# EAGLE library part TPS2590RSAR (library edrtech_lib)
20V, 5.5A, 30m eFuse with Dual Fault Threshold and Selectable Fault Response Source: Datasheet <http://www.ti.com/lit/gpn/tps2590>
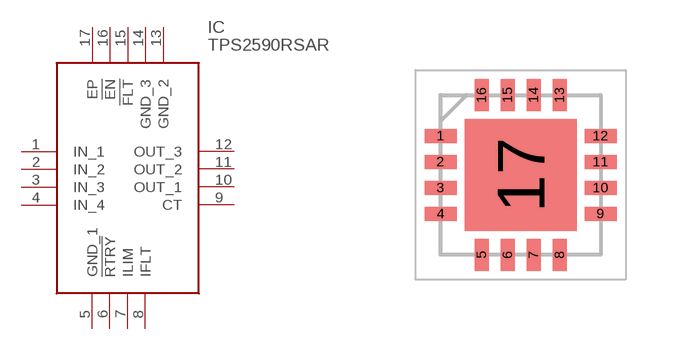
[diagram p62: symbol with the pads of QFN65P400X400X100-17N; footprint QFN65P400X400X100-17N]

Designator prefix IC

## TPS2590RSAR (ARROW_PART_NUMBER: TPS2590RSAR; ARROW_PRICE-STOCK: https://www.arrow.com/en/products/tps2590rsar/texas-instruments; DESCRIPTION: 20V, 5.5A, 30m eFuse with Dual Fault Threshold and Selectable Fault Response; HEIGHT: 1mm; MANUFACTURER_NAME: Texas Instruments; MANUFACTURER_PART_NUMBER: TPS2590RSAR)  [QFN65P400X400X100-17N]
1  IN_1
2  IN_2
3  IN_3
4  IN_4
5  GND_1
6  !RTRY
7  ILIM
8  IFLT
9  CT
10  OUT_1
11  OUT_2
12  OUT_3
13  GND_2
14  GND_3
15  !FLT
16  !EN
17  EP

## Footprint QFN65P400X400X100-17N (pad centres in mm)
RSA
smd 0.8 x 0.35: 1 -2,0.975; 2 -2,0.325; 3 -2,-0.325; 4 -2,-0.975; 9 2,-0.975; 10 2,-0.325; 11 2,0.325; 12 2,0.975
smd 0.35 x 0.8: 5 -0.975,-2; 6 -0.325,-2; 7 0.325,-2; 8 0.975,-2; 13 0.975,2; 14 0.325,2; 15 -0.325,2; 16 -0.975,2
smd 2.8 x 2.8: 17 0,0